# Altium footprint library PCB_Connector.PcbLib: 15 footprints
Each footprint in its own frame and in the unit in brackets; x right, y up, seen from the top. Pads: shape width x height; smd on the part's side, far side on the other; paste and mask are expansions set on the pad; w line width, h text height; cw(c..) or ccw(c..) is an arc to the next point about the centre after c.
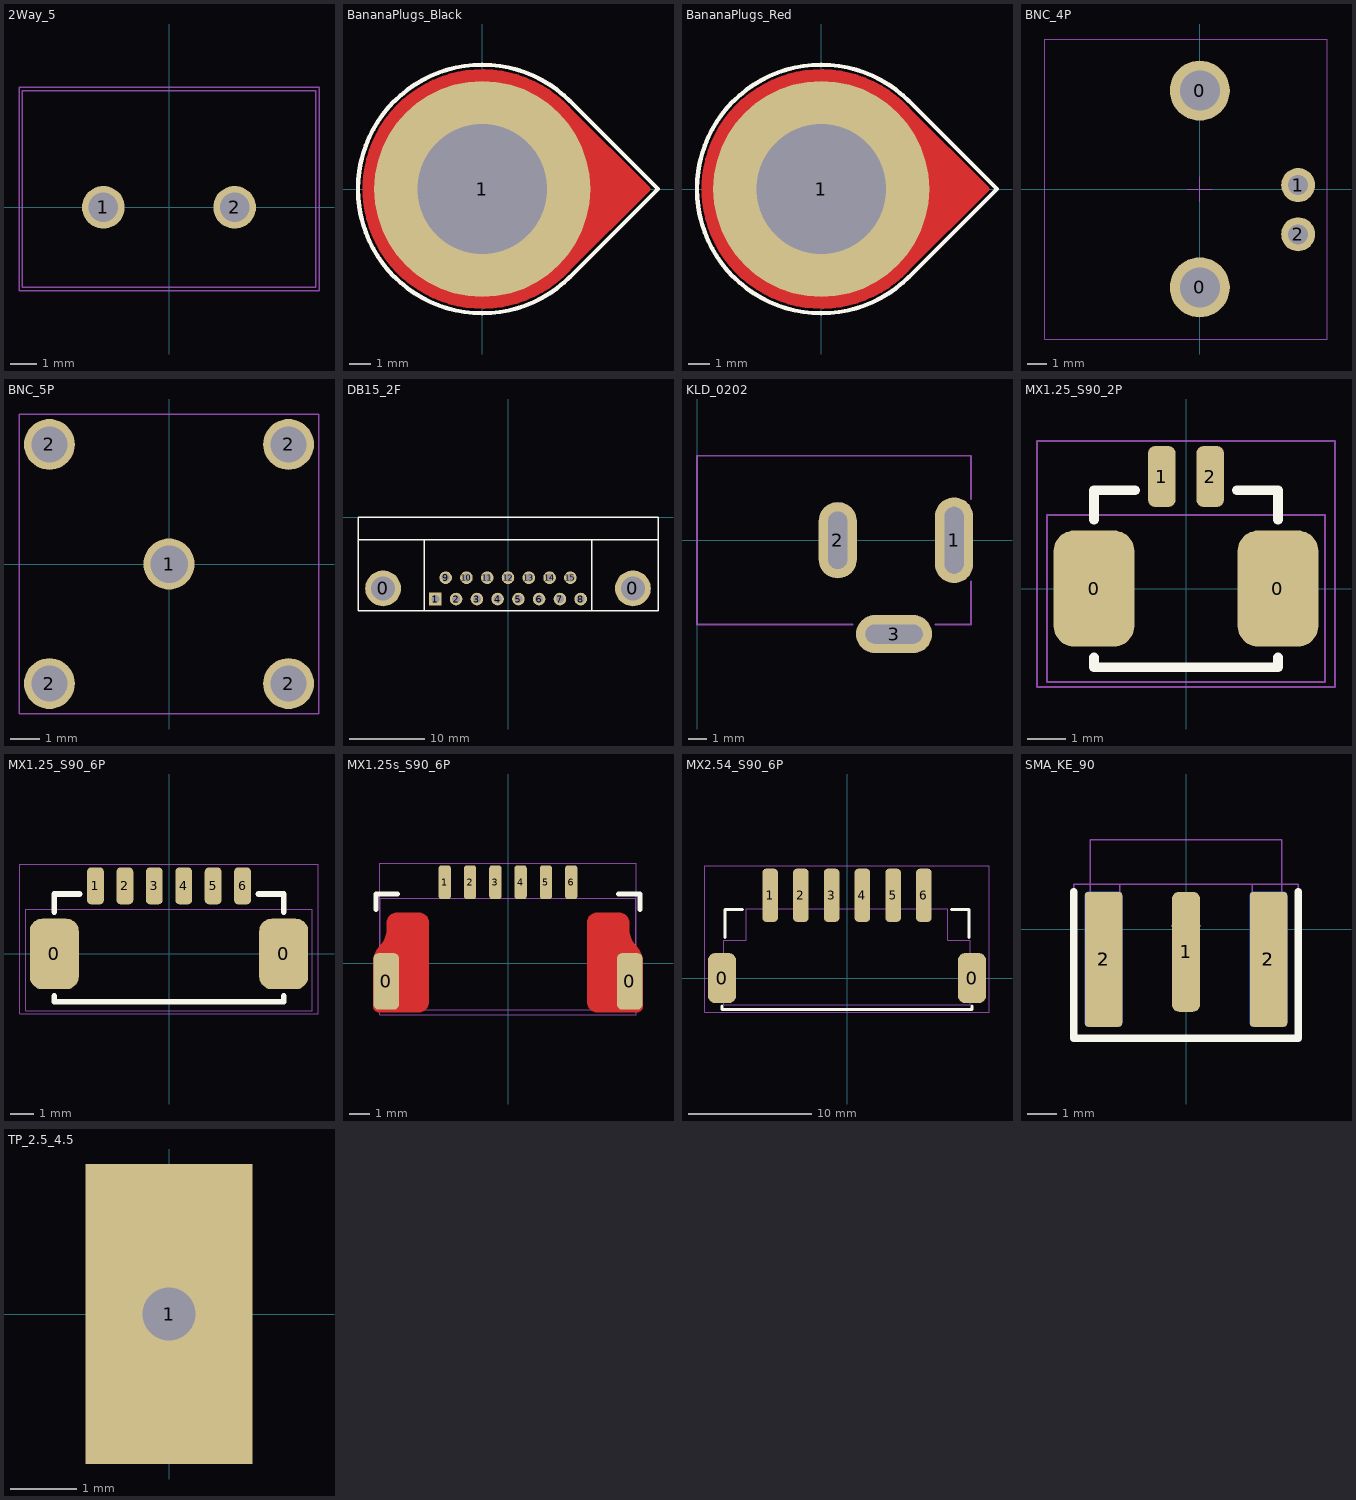
[diagram p0: the footprints below, top view; thin cyan lines are the x and y axes]

## 2Way_5 [mil]
height 501.97
pads (2):
  round 64 hole 44: 1(-98.43,0) 2(98.43,0)
Mechanical 13:
  lines w2: -220,-120 -220,175 220,175 220,-120 -220,-120
T-Component:
  lines w2: -225,-125 225,-125 225,180 -225,180 -225,-125
  text ".Designator" at -90,10 h100
3D body "38261.stp": height 590.55, standoff -137.8, extent -224.65,-185 197.8,189.02

## BananaPlugs_Black [mil]
pads (1):
  round 400 hole 240: 1(0,0)
Top Layer:
  region: 158.64,-146.59 148.87,-157.16 126.7,-175.53 102.29,-190.79 76.06,-202.68 48.5,-210.98 20.07,-215.55 -8.71,-216.3 -37.33,-213.24 -65.3,-206.4 -92.11,-195.9 -117.29,-181.95 -140.4,-164.78 -161.02,-144.69 -178.8,-122.04 -193.41,-97.23 -204.61,-70.71 -212.18,-42.93 -216,-14.4 -216,14.4 -212.18,42.93 -204.61,70.71 -193.41,97.23 -178.8,122.04 -161.02,144.69 -140.4,164.78 -117.29,181.95 -92.11,195.9 -65.3,206.4 -37.33,213.24 -8.71,216.3 20.07,215.55 48.5,210.98 76.06,202.68 102.29,190.79 126.7,175.53 148.87,157.16 158.64,146.59 159,146 305,0
  lines w12: 158.64,-146.59 cw(c0,0) 158.64,146.59 ; 159,-146 305,0 159,146
Bottom Layer:
  region: 158.64,-146.59 148.87,-157.16 126.7,-175.53 102.29,-190.79 76.07,-202.68 48.5,-210.98 20.07,-215.55 -8.71,-216.3 -37.33,-213.24 -65.3,-206.4 -92.11,-195.9 -117.29,-181.95 -140.4,-164.78 -161.02,-144.69 -178.8,-122.04 -193.41,-97.23 -204.61,-70.71 -212.18,-42.93 -216,-14.4 -216,14.4 -212.18,42.93 -204.61,70.71 -193.41,97.23 -178.8,122.04 -161.02,144.69 -140.4,164.78 -117.29,181.95 -92.11,195.9 -65.3,206.4 -37.33,213.24 -8.71,216.3 20.07,215.55 48.5,210.98 76.07,202.68 102.29,190.79 126.7,175.53 148.87,157.16 158.64,146.59 159,146 305,0
Top Overlay:
  lines w8: 162.63,-162.63 cw(c0,0) 162.63,162.63 325.27,0 162.63,-162.63
Bottom Overlay:
  lines w8: 162.63,-162.63 cw(c0,0) 162.63,162.63 325.27,0 162.63,-162.63
Top Solder:
  region: 158.64,-146.59 148.87,-157.16 126.7,-175.53 102.29,-190.79 76.07,-202.68 48.5,-210.98 20.07,-215.55 -8.71,-216.3 -37.33,-213.24 -65.3,-206.4 -92.11,-195.9 -117.29,-181.95 -140.4,-164.78 -161.02,-144.69 -178.8,-122.04 -193.41,-97.23 -204.61,-70.71 -212.18,-42.93 -216,-14.4 -216,14.4 -212.18,42.93 -204.61,70.71 -193.41,97.23 -178.8,122.04 -161.02,144.69 -140.4,164.78 -117.29,181.95 -92.11,195.9 -65.3,206.4 -37.33,213.24 -8.71,216.3 20.07,215.55 48.5,210.98 76.07,202.68 102.29,190.79 126.7,175.53 148.87,157.16 158.64,146.59 159,146 305,0
Bottom Solder:
  region: 158.64,-146.59 148.87,-157.16 126.7,-175.53 102.29,-190.79 76.07,-202.68 48.5,-210.98 20.07,-215.55 -8.71,-216.3 -37.33,-213.24 -65.3,-206.4 -92.11,-195.9 -117.29,-181.95 -140.4,-164.78 -161.02,-144.69 -178.8,-122.04 -193.41,-97.23 -204.61,-70.71 -212.18,-42.93 -216,-14.4 -216,14.4 -212.18,42.93 -204.61,70.71 -193.41,97.23 -178.8,122.04 -161.02,144.69 -140.4,164.78 -117.29,181.95 -92.11,195.9 -65.3,206.4 -37.33,213.24 -8.71,216.3 20.07,215.55 48.5,210.98 76.07,202.68 102.29,190.79 126.7,175.53 148.87,157.16 158.64,146.59 159,146 305,0
3D body "User Library-ST-351B V1 - BLACK.STEP": height 326.77, standoff -303.18, extent -222.44,-222.19 456.69,222.19

## BananaPlugs_Red [mil]
pads (1):
  round 400 hole 240: 1(0,0)
Top Layer:
  region: 158.64,-146.59 148.87,-157.16 126.7,-175.53 102.29,-190.79 76.06,-202.68 48.5,-210.98 20.07,-215.55 -8.71,-216.3 -37.33,-213.24 -65.3,-206.4 -92.11,-195.9 -117.29,-181.95 -140.4,-164.78 -161.02,-144.69 -178.8,-122.04 -193.41,-97.23 -204.61,-70.71 -212.18,-42.93 -216,-14.4 -216,14.4 -212.18,42.93 -204.61,70.71 -193.41,97.23 -178.8,122.04 -161.02,144.69 -140.4,164.78 -117.29,181.95 -92.11,195.9 -65.3,206.4 -37.33,213.24 -8.71,216.3 20.07,215.55 48.5,210.98 76.06,202.68 102.29,190.79 126.7,175.53 148.87,157.16 158.64,146.59 159,146 305,0
  lines w12: 158.64,-146.59 cw(c0,0) 158.64,146.59 ; 159,-146 305,0 159,146
Bottom Layer:
  region: 158.64,-146.59 148.87,-157.16 126.7,-175.53 102.29,-190.79 76.07,-202.68 48.5,-210.98 20.07,-215.55 -8.71,-216.3 -37.33,-213.24 -65.3,-206.4 -92.11,-195.9 -117.29,-181.95 -140.4,-164.78 -161.02,-144.69 -178.8,-122.04 -193.41,-97.23 -204.61,-70.71 -212.18,-42.93 -216,-14.4 -216,14.4 -212.18,42.93 -204.61,70.71 -193.41,97.23 -178.8,122.04 -161.02,144.69 -140.4,164.78 -117.29,181.95 -92.11,195.9 -65.3,206.4 -37.33,213.24 -8.71,216.3 20.07,215.55 48.5,210.98 76.07,202.68 102.29,190.79 126.7,175.53 148.87,157.16 158.64,146.59 159,146 305,0
Top Overlay:
  lines w8: 162.63,-162.63 cw(c0,0) 162.63,162.63 325.27,0 162.63,-162.63
Bottom Overlay:
  lines w8: 162.63,-162.63 cw(c0,0) 162.63,162.63 325.27,0 162.63,-162.63
Top Solder:
  region: 158.64,-146.59 148.87,-157.16 126.7,-175.53 102.29,-190.79 76.07,-202.68 48.5,-210.98 20.07,-215.55 -8.71,-216.3 -37.33,-213.24 -65.3,-206.4 -92.11,-195.9 -117.29,-181.95 -140.4,-164.78 -161.02,-144.69 -178.8,-122.04 -193.41,-97.23 -204.61,-70.71 -212.18,-42.93 -216,-14.4 -216,14.4 -212.18,42.93 -204.61,70.71 -193.41,97.23 -178.8,122.04 -161.02,144.69 -140.4,164.78 -117.29,181.95 -92.11,195.9 -65.3,206.4 -37.33,213.24 -8.71,216.3 20.07,215.55 48.5,210.98 76.07,202.68 102.29,190.79 126.7,175.53 148.87,157.16 158.64,146.59 159,146 305,0
Bottom Solder:
  region: 158.64,-146.59 148.87,-157.16 126.7,-175.53 102.29,-190.79 76.07,-202.68 48.5,-210.98 20.07,-215.55 -8.71,-216.3 -37.33,-213.24 -65.3,-206.4 -92.11,-195.9 -117.29,-181.95 -140.4,-164.78 -161.02,-144.69 -178.8,-122.04 -193.41,-97.23 -204.61,-70.71 -212.18,-42.93 -216,-14.4 -216,14.4 -212.18,42.93 -204.61,70.71 -193.41,97.23 -178.8,122.04 -161.02,144.69 -140.4,164.78 -117.29,181.95 -92.11,195.9 -65.3,206.4 -37.33,213.24 -8.71,216.3 20.07,215.55 48.5,210.98 76.07,202.68 102.29,190.79 126.7,175.53 148.87,157.16 158.64,146.59 159,146 305,0
3D body "User Library-ST-351A V1 - RED.STEP": height 326.77, standoff -303.18, extent -222.45,-222.2 456.69,222.18

## BNC_4P [mil]
pads (4):
  round 120 hole 80: 0(0,-196.85) 0(0,196.85)
  round 68 hole 40: 1(196.85,7.87) 2(196.85,-90.55)
Mechanical 13:
  lines w2: -25,0 25,0 ; 0,-25 0,25
T-Component:
  lines w2: -310,-300 255,-300 255,300 -310,300 -310,-300
3D body "User Library-BNC-144.STEP": height 519.2, standoff -161.8, extent -1124.99,-290.5 250.01,290.5

## BNC_5P [mil]
pads (5):
  round 68 hole 50: 1(0,0)
  round 68 hole 48: 2(-159.45,-159.45) 2(-159.45,159.45) 2(159.45,-159.45) 2(159.45,159.45)
T-Component:
  lines w2: -200,-200 200,-200 200,200 -200,200 -200,-200
3D body "User Library-BNC84CT-9000.STEP": height 600.39, standoff -177.17, extent -216.53,-216.53 1043.31,216.54

## DB15_2F [mil]
height 501.97
pads (17):
  round 188 hole 125: 0(-655.91,-374.02) 0(655.91,-374.02)
  rect 66x66 hole 42: 1(-381.69,-429.92)
  round 66 hole 42: 2(-272.64,-429.92) 3(-163.58,-429.92) 4(-54.53,-429.92) 5(54.53,-429.92) 6(163.58,-429.92) 7(272.64,-429.92) 8(381.69,-429.92) 9(-327.17,-318.11) 10(-218.11,-318.11) 11(-109.05,-318.11) 12(0,-318.11) 13(109.06,-318.11) 14(218.11,-318.11) 15(327.17,-318.11)
Top Overlay:
  lines w7.87: -787.4,-118.11 787.4,-118.11 ; -438.58,-492.13 -438.58,-118.11 ; 438.58,-492.13 438.58,-118.11 ; -787.4,-492.13 787.4,-492.13 787.4,0 -787.4,0 -787.4,-492.13
3D body "SW3DPS-DB15RA_F-DEFAULT.STEP": height 494.09, standoff -137.8, extent -779.92,-500 779.92,224.41

## DB15_3F [mil]
height 501.97
3D body "User Library-17EBH-015P.STEP": height 494.09, standoff -141.73, extent -386.49,-2213.58 826.5,-1339
3D body "SW3dPS-SLIM D-SUB RIGHT ANGLE PCB MOUNT.STEP": height 246.06, standoff -279.2, extent 988.71,-2071.33 2201.3,-1541.02

## KLD_0202 [mil]
pads (3):
  oval 80x180 hole 40 slot 140 at 90 deg: 1(539.37,0)
  oval 80x160 hole 40 slot 120 at 90 deg: 2(295.28,0)
  oval 160x80 hole 40 slot 120 at 0 deg: 3(413.39,-196.85)
Mechanical 2:
  lines w79.37: 295.28,-39.37 295.28,39.37 ; 374.02,-196.85 452.76,-196.85 ; 539.37,-49.21 539.37,49.21
Mechanical 13:
  lines w4: 326.77,-177.17 0,-177.17 0,177.17 574.8,177.17 574.8,86.61 ; 500,-177.17 574.8,-177.17 574.8,-86.61
3D body "User Library-K375A -PCM DC Power Jack 2mm Pin.STEP": height 433.07, standoff -200.79, extent -9.25,-212.75 561.62,173.07

## MX1.25_S90_2P [mil]
pads (4):
  rrect50% 82x118 smd: 0(-93.58,0) 0(93.58,0)
  rrect50% 28x62 smd: 1(-24.61,114) 2(24.61,114)
Top Overlay:
  lines w10: -93.58,-70 -93.58,-80 93.58,-80 93.58,-70 ; -93.58,70 -93.58,100 -51.58,100 ; 51.58,100 93.58,100 93.58,70
Mechanical 13:
  lines w2: -141.58,-95 -141.58,75 141.58,75 141.58,-95 -141.58,-95
T-Component:
  lines w2: -151.58,-100 -151.58,150 151.58,150 151.58,-100 -151.58,-100
  text ".Designator" at -90,-25 h100
3D body "47641.stp": height 98.43, standoff -23.62, extent -146.65,-128.78 146.65,135

## MX1.25_S90_6P [mil]
pads (8):
  rrect50% 82x118 smd: 0(-192,0) 0(192,0)
  rrect50% 28x62 smd: 1(-123.03,114) 2(-73.82,114) 3(-24.61,114) 4(24.61,114) 5(73.82,114) 6(123.03,114)
Top Overlay:
  lines w10: -192,-70 -192,-80 192,-80 192,-70 ; -192,70 -192,100 -150,100 ; 150,100 192,100 192,70
Mechanical 13:
  lines w2: -240,-95 240,-95 240,75 -240,75 -240,-95
T-Component:
  lines w2: -250,-100 250,-100 250,150 -250,150 -250,-100
  text ".Designator" at -90,-5 h100
3D body "532610671.stp": height 132.99, standoff -0.87, extent -249.01,-73.39 249.01,131.33

## MX1.25s_S90_6P [mil]
pads (8):
  rrect40% 50x110 smd: 0(-237,-35) 0(237,-35)
  rrect50% 24x66 smd: 1(-123.03,158) 2(-73.82,158) 3(-24.61,158) 4(24.61,158) 5(73.82,158) 6(123.03,158)
Top Layer:
  region: 236,78 236,82.18 232.8,89.9 226.9,95.8 219.18,99 215,99 174,99 170.02,99 162.67,95.95 157.04,90.33 154,82.98 154,79 154,-75 154,-78.98 157.04,-86.33 162.67,-91.95 170.02,-95 174,-95 252,-95 253.99,-95 257.66,-93.48 260.48,-90.66 262,-86.99 262,-85 262,3.62 262,7.99 260.29,16.56 256.95,24.64 252.09,31.91 249,35 246.07,38.23 241.24,45.46 237.91,53.5 236.21,62.03 236,66.39
  region: -236,78 -236,82.18 -232.8,89.9 -226.9,95.8 -219.18,99 -215,99 -174,99 -170.02,99 -162.67,95.95 -157.04,90.33 -154,82.98 -154,79 -154,-75 -154,-78.98 -157.04,-86.33 -162.67,-91.95 -170.02,-95 -174,-95 -252,-95 -253.99,-95 -257.66,-93.48 -260.48,-90.66 -262,-86.99 -262,-85 -262,3.62 -262,7.99 -260.29,16.56 -256.95,24.64 -252.09,31.91 -249,35 -246.07,38.23 -241.24,45.46 -237.91,53.5 -236.21,62.03 -236,66.39
Top Overlay:
  lines w10: -257,105 -257,135 -215,135 ; 215,135 257,135 257,105
Mechanical 13:
  lines w2: -249.02,-90 -249.02,126.54 249.02,126.54 249.02,-90 -249.02,-90 ; -249.02,-85 -249.02,15.39 -217.52,15.39 -217.52,-85 -249.02,-85 ; 217.52,-85 249.02,-85 249.02,15.39 217.52,15.39 217.52,-85
T-Component:
  lines w2: -250,-100 250,-100 250,195 -250,195 -250,-100
  text ".Designator" at -90,-10 h100
3D body "532610671.stp": height 132.99, standoff -0.87, extent -249.01,-45 249.01,159.73

## MX2.54_S90_6P [mil]
pads (8):
  rrect50% 90x160 smd: 0(-400,0) 0(400,0)
  rrect50% 50x170 smd: 1(-246.06,265) 2(-147.64,265) 3(-49.21,265) 4(49.21,265) 5(147.64,265) 6(246.06,265)
Top Overlay:
  lines w10: -400,-90 -400,-100 400,-100 400,-90 ; -390,130 -390,220 -335,220 ; 335,220 390,220 390,130
Mechanical 13:
  lines w2: -393.7,-85 -393.7,121.69 -322.83,121.69 -322.83,222.09 322.83,222.09 322.83,121.69 393.7,121.69 393.7,-85 -393.7,-85
T-Component:
  lines w2: -455,-110 455,-110 455,360 -455,360 -455,-110
  text ".Designator" at -90,75 h100

## SMA_KE_90 [mil]
pads (5):
  rrect50% 37.4x160 smd paste-160: 1(0,-30)
  rrect20% 50x180 smd paste-180: 2(-110,-40) 2(110,-40)
  rrect20% 50x180 smd far side paste-180: 2(-110,-40) 2(110,-40)
Top Overlay:
  lines w10: -150,50 -150,-145 150,-145 150,50
Mechanical 13:
  lines w2: -88.58,60 -88.58,-97.48 -127.95,-97.48 -127.95,60 ; -19.69,5 19.68,5 ; 88.58,60 88.58,-97.48 127.95,-97.48 127.95,60 ; -127.95,60 127.95,60 ; -127.95,60 -127.95,119.06 127.95,119.06 127.95,60
T-Component:
  lines w2: -150,-145 -150,60 150,60 150,-145 -150,-145
  text ".Designator" at -55,-60 h80
3D body "ALSRobot-SMA-KHD19A.STEP": height 125.98, standoff -114.17, extent -120.08,-100 120.08,431.49

## TP_2.5_4.5 [mm]
pads (1):
  rect 2.5x4.5 hole 0.8: 1(0,0)

## ZBUF_3DMODEL [mil]
3D body "47641.stp": height 98.43, standoff -23.62, extent 153.35,-345 446.65,-81.22
3D body "47659.stp": height 98.43, standoff -23.62, extent -129.29,-18.78 459.29,245
3D body "47631.stp": height 98.43, standoff -23.62, extent -206.62,320.19 480.39,583.97